# Altium schematic symbol library TS63Y103KT20.SchLib: 1 symbol
Pins are listed as number, name and electrical type; pins without a type are passive.

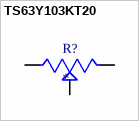
[diagram p0: symbol TS63Y103KT20]

## TS63Y103KT20
designator R?
TRIMMER, POT, 10K, 15TURN, SMD; Track Resistance:10kohm; No. of Turns:13Turns; Potentiometer Mounting:Surface Mount Device; Product Range:TS63Y Series; Power Rating:250mW; Resistance Tolerance:Â± 10%; Temperature Coefficient:Â± 100ppm/Â°C; Automotive Qualification Standard:-; MSL:MSL 1 - Unlimited; Adjustment Type:Screwdriver Slot; Contact Resistance Variation +:2%; End Resistance:1ohm; External Depth:6.85mm; External Length / Height:6.85mm; External Width:5mm; IP / NEMA Rating:IP67; Operating Temperature Max:155Â°C; Operating Temperature Min:-55Â°C; Operating Temperature Range:-55Â°C to +155Â°C; Proof Voltage:1000V; Resistance:10kohm; Resistor Element Material:Cermet; Resistor Mounting:Surface Mount Device; Temperature Coeff. +:100ppm/Â°C; Temperature Coeff. -:100ppm/Â°C; Tolerance +:10%; Tolerance -:10%; Track Taper:Linear; Voltage Rating:250V; Voltage Rating V DC:250V; MF: Vishay; MP: TS63Y103KT20; Price: None; Value: *; Check_prices: https://www.snapeda.com/parts/TS63Y103KT20/Vishay/view-part/?ref=eda; Package: SMD Vishay Sfernice; Purchase-URL: https://pricing.snapeda.com/search/part/TS63Y103KT20/?ref=eda; Availability: In Stock; SnapEDA_Link: https://www.snapeda.com/parts/TS63Y103KT20/Vishay/view-part/?ref=snap
footprint TRIM_TS63Y103KT20
pins: 1 A, 2 B, 3 C